# Altium schematic symbol library Connectors.SchLib: 17 symbols
Pins are listed as number, name and electrical type; pins without a type are passive.

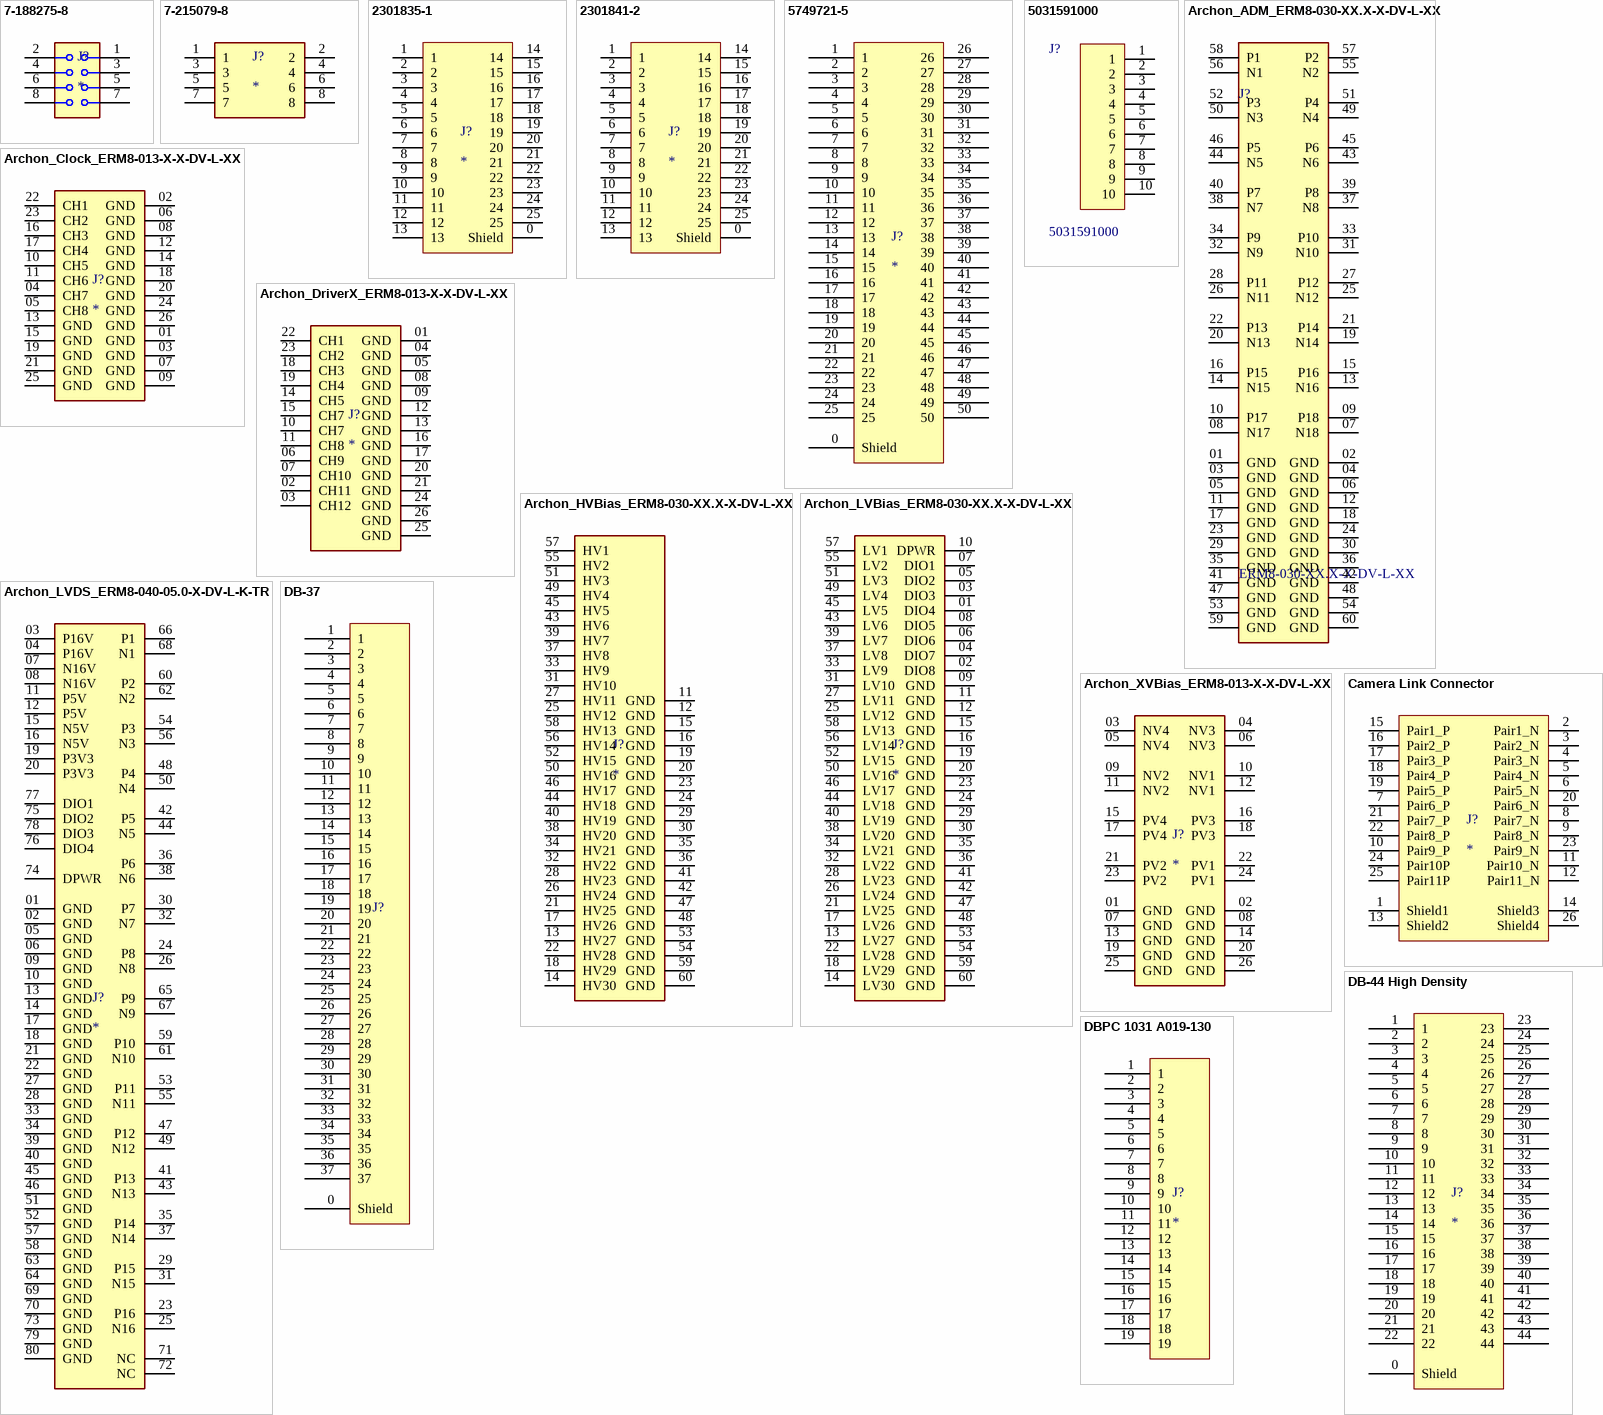
[diagram p0: symbols 7-188275-8 to DBPC 1031 A019-130]

## 7-188275-8
designator J?
Conn FFC Connector SKT 8 POS 1.27mm Solder ST SMD Automotive T/R; MF: {'manufacturer': u'TE Connectivity'}; MP: 7-188275-8; Package: None; Price: None; Value: *; Availability: Unavailable
footprint TE_7-188275-8
pins: 1, 2, 3, 4, 5, 6, 7, 8

## 7-215079-8
designator J?
TE Connectivity 7-215079-8 215079-78 Micro -Match Socket Connector Straight; Package: SMD-6 Omron Electronics; SnapEDA_Link: https://www.snapeda.com/parts/7-215079-8/TE%20Connectivity%20AMP%20Connectors/view-part/651817/?ref=snap; Price: None; MP: 7-215079-8; Availability: Unavailable; Value: *; MF: TE Connectivity; EU_RoHS_Compliance: Compliant; Mouser-Purchase-URL: https://snapeda.com/shop?store=Mouser&id=651817; Arrow_Electronics-Purchase-URL: https://snapeda.com/shop?store=Arrow+Electronics&id=651817
footprint TE_7-215079-8
pins: 1, 2, 3, 4, 5, 6, 7, 8

## 2301835-1
designator J?
DB-25 Connector; MF: {'manufacturer': u'TE Connectivity'}; MP: 2301841-2; Package: None; Price: None; Value: *; Availability: Unavailable
footprint 2301835-1 (DB25 Male)
pins: 0 Shield, 1, 2, 3, 4, 5, 6, 7, 8, 9, 10, 11, 12, 13, 14, 15, 16, 17, 18, 19, 20, 21, 22, 23, 24, 25

## 2301841-2
designator J?
DB-25 Connector; MF: {'manufacturer': u'TE Connectivity'}; MP: 2301841-2; Package: None; Price: None; Value: *; Availability: Unavailable
footprint TE_2301841-2
pins: 0 Shield, 1, 2, 3, 4, 5, 6, 7, 8, 9, 10, 11, 12, 13, 14, 15, 16, 17, 18, 19, 20, 21, 22, 23, 24, 25

## 5749721-5
designator J?
D-Type HDHP50
footprint 5749721-5 (50 pos D-type HDHP)
pins: 0 Shield, 1, 2, 3, 4, 5, 6, 7, 8, 9, 10, 11, 12, 13, 14, 15, 16, 17, 18, 19, 20, 21, 22, 23, 24, 25, 26, 27, 28, 29, 30, 31, 32, 33, 34, 35, 36, 37, 38, 39, 40, 41, 42, 43, 44, 45, 46, 47, 48, 49, 50

## 5031591000
designator J?
1.50mm Pitch, CLIK-Mate PCB Receptacle, Single Row, Through Hole, Vertical, Tin Plating, Positive Lock, with Peg, 10 Circuits, Natural; MF: {'manufacturer': u'Molex'}; Package: None; Price: None; Value: *; MP: 5031591000; Availability: Unavailable
footprint MOLEX_5031591000
pins: 1, 2, 3, 4, 5, 6, 7, 8, 9, 10

## Archon_ADM_ERM8-030-XX.X-X-DV-L-XX
designator J?, comment ERM8-030-XX.X-X-DV-L-XX
60 Position Connector Header, Center Strip Contacts Surface Mount Gold; MF: {'manufacturer': u'Samtec'}; Package: None; Price: None; Value: *; MP: ERM8-030-XX.X-X-DV-L-XX; Availability: Unavailable
footprint SAMTEC_ERM8-030-XX.X-X-DV-L-XX
pins: 01 GND, 02 GND, 03 GND, 04 GND, 05 GND, 06 GND, 07 N18, 08 N17, 09 P18, 10 P17, 11 GND, 12 GND, 13 N16, 14 N15, 15 P16, 16 P15, 17 GND, 18 GND, 19 N14, 20 N13, 21 P14, 22 P13, 23 GND, 24 GND, 25 N12, 26 N11, 27 P12, 28 P11, 29 GND, 30 GND, 31 N10, 32 N9, 33 P10, 34 P9, 35 GND, 36 GND, 37 N8, 38 N7, 39 P8, 40 P7, 41 GND, 42 GND, 43 N6, 44 N5, 45 P6, 46 P5, 47 GND, 48 GND, 49 N4, 50 N3, 51 P4, 52 P3, 53 GND, 54 GND, 55 N2, 56 N1, 57 P2, 58 P1, 59 GND, 60 GND

## Archon_Clock_ERM8-013-X-X-DV-L-XX
designator J?
ERM8 - Samtec 0.80mm Edge Rate Rugged High-Speed Terminal Strip; MF: {'manufacturer': u'SAMTEC'}; MP: ERM8-013-X-X-DV-L-XX; Package: None; Price: None; Value: *; Availability: Unavailable
footprint SAMTEC_ERM8-013-X-X-DV-L-XX
pins: 01 GND, 02 GND, 03 GND, 04 CH7, 05 CH8, 06 GND, 07 GND, 08 GND, 09 GND, 10 CH5, 11 CH6, 12 GND, 13 GND, 14 GND, 15 GND, 16 CH3, 17 CH4, 18 GND, 19 GND, 20 GND, 21 GND, 22 CH1, 23 CH2, 24 GND, 25 GND, 26 GND

## Archon_DriverX_ERM8-013-X-X-DV-L-XX
designator J?
ERM8 - Samtec 0.80mm Edge Rate Rugged High-Speed Terminal Strip; MF: {'manufacturer': u'SAMTEC'}; MP: ERM8-013-X-X-DV-L-XX; Package: None; Price: None; Value: *; Availability: Unavailable
footprint SAMTEC_ERM8-013-X-X-DV-L-XX
pins: 01 GND, 02 CH11, 03 CH12, 04 GND, 05 GND, 06 CH9, 07 CH10, 08 GND, 09 GND, 10 CH7, 11 CH8, 12 GND, 13 GND, 14 CH5, 15 CH7, 16 GND, 17 GND, 18 CH3, 19 CH4, 20 GND, 21 GND, 22 CH1, 23 CH2, 24 GND, 25 GND, 26 GND

## Archon_HVBias_ERM8-030-XX.X-X-DV-L-XX
designator J?
60 Position Connector Header, Center Strip Contacts Surface Mount Gold; MF: {'manufacturer': u'Samtec'}; MP: ERM8-030-XX.X-X-DV-L-XX; Package: None; Price: None; Value: *; Availability: Unavailable
footprint SAMTEC_ERM8-030-XX.X-X-DV-L-XX
pins: 11 GND, 12 GND, 13 HV27, 14 HV30, 15 GND, 16 GND, 17 HV26, 18 HV29, 19 GND, 20 GND, 21 HV25, 22 HV28, 23 GND, 24 GND, 25 HV12, 26 HV24, 27 HV11, 28 HV23, 29 GND, 30 GND, 31 HV10, 32 HV22, 33 HV9, 34 HV21, 35 GND, 36 GND, 37 HV8, 38 HV20, 39 HV7, 40 HV19, 41 GND, 42 GND, 43 HV6, 44 HV18, 45 HV5, 46 HV17, 47 GND, 48 GND, 49 HV4, 50 HV16, 51 HV3, 52 HV15, 53 GND, 54 GND, 55 HV2, 56 HV14, 57 HV1, 58 HV13, 59 GND, 60 GND

## Archon_LVBias_ERM8-030-XX.X-X-DV-L-XX
designator J?
60 Position Connector Header, Center Strip Contacts Surface Mount Gold; MF: {'manufacturer': u'Samtec'}; MP: ERM8-030-XX.X-X-DV-L-XX; Package: None; Price: None; Value: *; Availability: Unavailable
footprint SAMTEC_ERM8-030-XX.X-X-DV-L-XX
pins: 01 DIO4, 02 DIO8, 03 DIO3, 04 DIO7, 05 DIO2, 06 DIO6, 07 DIO1, 08 DIO5, 09 GND, 10 DPWR, 11 GND, 12 GND, 13 LV27, 14 LV30, 15 GND, 16 GND, 17 LV26, 18 LV29, 19 GND, 20 GND, 21 LV25, 22 LV28, 23 GND, 24 GND, 25 LV12, 26 LV24, 27 LV11, 28 LV23, 29 GND, 30 GND, 31 LV10, 32 LV22, 33 LV9, 34 LV21, 35 GND, 36 GND, 37 LV8, 38 LV20, 39 LV7, 40 LV19, 41 GND, 42 GND, 43 LV6, 44 LV18, 45 LV5, 46 LV17, 47 GND, 48 GND, 49 LV4, 50 LV16, 51 LV3, 52 LV15, 53 GND, 54 GND, 55 LV2, 56 LV14, 57 LV1, 58 LV13, 59 GND, 60 GND

## Archon_LVDS_ERM8-040-05.0-X-DV-L-K-TR
designator J?
0.80 mm Edge Rate Rugged High Speed Terminal; MF: {'manufacturer': u'Samtec'}; MP: ERM8-040-05.0-X-DV-L-K-TR; Package: None; Price: None; Value: *; Availability: Unavailable
footprint SAMTEC_ERM8-040-05.0-X-DV-L-K-TR
pins: 01 GND, 02 GND, 03 P16V, 04 P16V, 05 GND, 06 GND, 07 N16V, 08 N16V, 09 GND, 10 GND, 11 P5V, 12 P5V, 13 GND, 14 GND, 15 N5V, 16 N5V, 17 GND, 18 GND, 19 P3V3, 20 P3V3, 21 GND, 22 GND, 23 P16, 24 P8, 25 N16, 26 N8, 27 GND, 28 GND, 29 P15, 30 P7, 31 N15, 32 N7, 33 GND, 34 GND, 35 P14, 36 P6, 37 N14, 38 N6, 39 GND, 40 GND, 41 P13, 42 P5, 43 N13, 44 N5, 45 GND, 46 GND, 47 P12, 48 P4, 49 N12, 50 N4, 51 GND, 52 GND, 53 P11, 54 P3, 55 N11, 56 N3, 57 GND, 58 GND, 59 P10, 60 P2, 61 N10, 62 N2, 63 GND, 64 GND, 65 P9, 66 P1, 67 N9, 68 N1, 69 GND, 70 GND, 71 NC, 72 NC, 73 GND, 74 DPWR, 75 DIO2, 76 DIO4, 77 DIO1, 78 DIO3, 79 GND, 80 GND

## Archon_XVBias_ERM8-013-X-X-DV-L-XX
designator J?
ERM8 - Samtec 0.80mm Edge Rate Rugged High-Speed Terminal Strip; MF: {'manufacturer': u'SAMTEC'}; MP: ERM8-013-X-X-DV-L-XX; Package: None; Price: None; Value: *; Availability: Unavailable
footprint SAMTEC_ERM8-013-X-X-DV-L-XX
pins: 01 GND, 02 GND, 03 NV4, 04 NV3, 05 NV4, 06 NV3, 07 GND, 08 GND, 09 NV2, 10 NV1, 11 NV2, 12 NV1, 13 GND, 14 GND, 15 PV4, 16 PV3, 17 PV4, 18 PV3, 19 GND, 20 GND, 21 PV2, 22 PV1, 23 PV2, 24 PV1, 25 GND, 26 GND

## Camera Link Connector
designator J?
Mini Ribbon Connector; MF: {'manufacturer': u'3M'}; MP: 10226-6212PC; Package: None; Price: None; Value: *; Availability: Unavailable
footprint 3M_10226-6212PC
pins: 1 Shield1, 2 Pair1_N, 3 Pair2_N, 4 Pair3_N, 5 Pair4_N, 6 Pair5_N, 7 Pair6_P, 8 Pair7_N, 9 Pair8_N, 10 Pair9_P, 11 Pair10_N, 12 Pair11_N, 13 Shield2, 14 Shield3, 15 Pair1_P, 16 Pair2_P, 17 Pair3_P, 18 Pair4_P, 19 Pair5_P, 20 Pair6_N, 21 Pair7_P, 22 Pair8_P, 23 Pair9_N, 24 Pair10P, 25 Pair11P, 26 Shield4

## DB-37
designator J?
DB-37 Connector
footprint 171-037-213R911 (DB-37)
pins: 0 Shield, 1, 2, 3, 4, 5, 6, 7, 8, 9, 10, 11, 12, 13, 14, 15, 16, 17, 18, 19, 20, 21, 22, 23, 24, 25, 26, 27, 28, 29, 30, 31, 32, 33, 34, 35, 36, 37

## DB-44 High Density
designator J?
DB-44 High Density Connector
footprint 180-M44-113R911 (CONN D-SUB HD RCPT 44P VERT SLDR MALE)
footprint 09563517513 (CONN D-SUB HD RCPT 44P VERT SLDR FEMALE)
pins: 0 Shield, 1, 2, 3, 4, 5, 6, 7, 8, 9, 10, 11, 12, 13, 14, 15, 16, 17, 18, 19, 20, 21, 22, 23, 24, 25, 26, 27, 28, 29, 30, 31, 32, 33, 34, 35, 36, 37, 38, 39, 40, 41, 42, 43, 44

## DBPC 1031 A019-130
designator J?
Fischer Connectors – DBPC 1031 A019-130
pins: 1, 2, 3, 4, 5, 6, 7, 8, 9, 10, 11, 12, 13, 14, 15, 16, 17, 18, 19